# Altium schematic symbol library LQ035Q7DB05.Schlib: 1 symbol
Pins are listed as number, name and electrical type; pins without a type are passive.

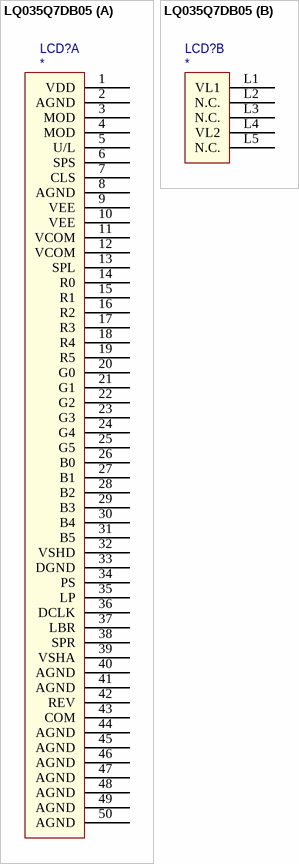
[diagram p0: symbol LQ035Q7DB05]

## LQ035Q7DB05
designator LCD?  (graphical)
part A pins: 1 VDD, 2 AGND, 3 MOD, 4 MOD, 5 U/L, 6 SPS, 7 CLS, 8 AGND, 9 VEE, 10 VEE, 11 VCOM, 12 VCOM, 13 SPL, 14 R0, 15 R1, 16 R2, 17 R3, 18 R4, 19 R5, 20 G0, 21 G1, 22 G2, 23 G3, 24 G4, 25 G5, 26 B0, 27 B1, 28 B2, 29 B3, 30 B4, 31 B5, 32 VSHD, 33 DGND, 34 PS, 35 LP, 36 DCLK, 37 LBR, 38 SPR, 39 VSHA, 40 AGND, 41 AGND, 42 REV, 43 COM, 44 AGND, 45 AGND, 46 AGND, 47 AGND, 48 AGND, 49 AGND, 50 AGND
part B pins: L1 VL1, L2 N.C., L3 N.C., L4 VL2, L5 N.C.
1 alternate drawing of the same symbol